# EAGLE library part LT1763CS8-3.3#TRPBF (library LT1763CS8-3.3_TRPBF)
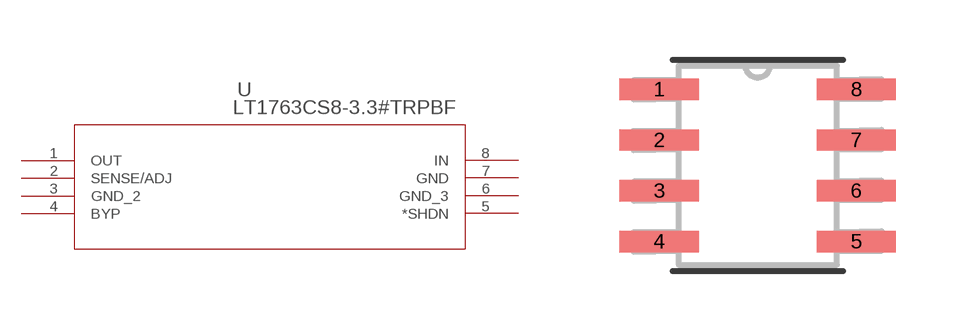
[diagram p0: symbol with the pads of SO-8_S; footprint SO-8_S]

Designator prefix U

## LT1763CS8-3.3#TRPBF (Description: LDO Regulator Pos 3.3V 0.5A Automotive 8-Pin SOIC N T/R; Digi-Key_Part_Number: LT1763CS8-3.3#TRPBFCT-ND; Digi-Key_Purchase_URL: https://www.digikey.co.nz/product-detail/en/linear-technology-analog-devices/LT1763CS8-3.3-TRPBF/LT1763CS8-3.3-TRPBFCT-ND/4247566?utm_source=snapeda&utm_medium=aggregator&utm_campaign=symbol; MF: Analog Devices; MP: LT1763CS8-3.3#TRPBF; Package: SOIC -8 Analog Devices)  [SO-8_S]
1  OUT  out
2  SENSE/ADJ
3  GND_2  pwr
4  BYP  pas
5  *SHDN  pas
6  GND_3  pwr
7  GND  pwr
8  IN  in

## Footprint SO-8_S (pad centres in mm)
smd 1.981 x 0.533: 1 -2.464,1.905; 2 -2.464,0.635; 3 -2.464,-0.635; 4 -2.464,-1.905; 5 2.464,-1.905; 6 2.464,-0.635; 7 2.464,0.635; 8 2.464,1.905